# Altium schematic symbol library NC7SV00L6X.SchLib: 1 symbol
Pins are listed as number, name and electrical type; pins without a type are passive.

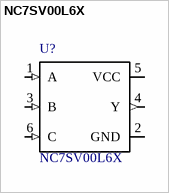
[diagram p0: symbol NC7SV00L6X]

## NC7SV00L6X
designator U?
NAND Gate IC 1 Channel 6-MicroPak; MF: ON Semiconductor; Price: None; MP: NC7SV00L6X; Package: UFDFN-6 ON Semiconductor; SnapEDA_Link: https://www.snapeda.com/parts/NC7SV00L6X/ON%20Semiconductor/view-part/1903689/?ref=snap; Availability: Unavailable; Value: *
footprint *PSON50P145X100X55-6N
pins: 1 A (in), 2 GND, 3 B (in), 4 Y (out), 5 VCC, 6 C (in)